# EAGLE library part 2023246-2 (library 2023246-2)
Conn SATA RCP 22 POS 1.27mm Solder RA SMD 22 Terminal 1 Port Tray Check availability <https://pricing.snapeda.com/parts/2023246-2/TE%20Connectivity/view-part?ref=eda>
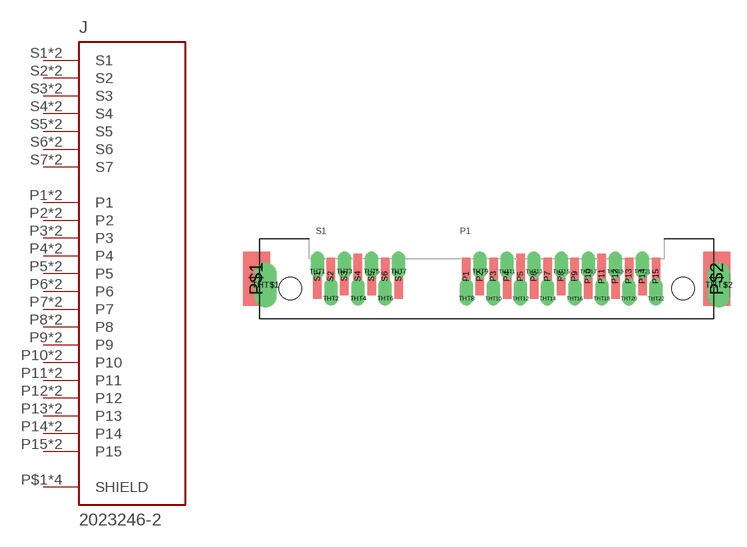
[diagram p0: symbol with the pads of TE_2023246-2; footprint TE_2023246-2]

Designator prefix J

## 2023246-21735284-3 (AVAILABILITY: In Stock; COMMENT: 2023246-2; DESCRIPTION: Conn SATA RCP 22 POS 1.27mm Solder RA SMD 22 Terminal 1 Port Tray; MF: TE Connectivity; MP: 2023246-2; PACKAGE: None; PRICE: None; PURCHASE-URL: https://pricing.snapeda.com/search/part/2023246-2/?ref=eda)  [TE_2023246-2]
P1  P1  pas
P2  P2  pas
P3  P3  pas
P4  P4  pas
P5  P5  pas
P6  P6  pas
P7  P7  pas
P8  P8  pas
P9  P9  pas
P10  P10  pas
P11  P11  pas
P12  P12  pas
P13  P13  pas
P14  P14  pas
P15  P15  pas
P$1  SHIELD  pas
P$2  SHIELD  pas
S1  S1  pas
S2  S2  pas
S3  S3  pas
S4  S4  pas
S5  S5  pas
S6  S6  pas
S7  S7  pas
THT1  S1  pas
THT2  S2  pas
THT3  S3  pas
THT4  S4  pas
THT5  S5  pas
THT6  S6  pas
THT7  S7  pas
THT8  P1  pas
THT9  P2  pas
THT10  P3  pas
THT11  P4  pas
THT12  P5  pas
THT13  P6  pas
THT14  P7  pas
THT15  P8  pas
THT16  P9  pas
THT17  P10  pas
THT18  P11  pas
THT19  P12  pas
THT20  P13  pas
THT21  P14  pas
THT22  P15  pas
THT$1  SHIELD  pas
THT$2  SHIELD  pas

## Footprint TE_2023246-2 (pad centres in mm)
smd 0.8 x 3.5: P1 -1.905,0.23; P2 -0.635,0.23; P3 0.635,0.23; P7 5.715,0.23; P8 6.985,0.23; P9 8.255,0.23; P13 13.335,0.23; P14 14.605,0.23; P15 15.875,0.23; S2 -14.605,0.23; S3 -13.335,0.23; S5 -10.795,0.23; S6 -9.525,0.23
smd 0.8 x 4.2: P4 1.905,0.23; P5 3.175,0.23; P6 4.445,0.23; P10 9.525,0.23; P11 10.795,0.23; P12 12.065,0.23; S1 -15.875,0.23; S4 -12.065,0.23; S7 -8.255,0.23
smd 2.54 x 5.08: P$1 -21.59,0; P$2 21.59,0
drill 0.75 pad 1.016 offset: THT1 -15.875,0.67; THT2 -14.605,-1.87; THT3 -13.335,0.67; THT4 -12.065,-1.87; THT5 -10.795,0.67; THT6 -9.525,-1.87; THT7 -8.255,0.67; THT8 -1.905,-1.87; THT9 -0.635,0.67; THT10 0.635,-1.87; THT11 1.905,0.67; THT12 3.175,-1.87; THT13 4.445,0.67; THT14 5.715,-1.87; THT15 6.985,0.67; THT16 8.255,-1.87; THT17 9.525,0.67; THT18 10.795,-1.87; THT19 12.065,0.67; THT20 13.335,-1.87; THT21 14.605,0.67; THT22 15.875,-1.87
drill 1.4 pad 2 long: THT$1 -20.75,-0.6; THT$2 21.75,-0.6
hole 2.1 at 18.4,-0.9
hole 2.1 at -18.4,-0.9